# EAGLE library part FMC-HPC400 (library samtec-fmc)
ASP-134488-01 FMC Connector, lead free, (HPC), 400 I/O, male 10 mm ASP-134602-01 FMC Connector, lead free, (HPC), 400 I/O, male 8.50 mm
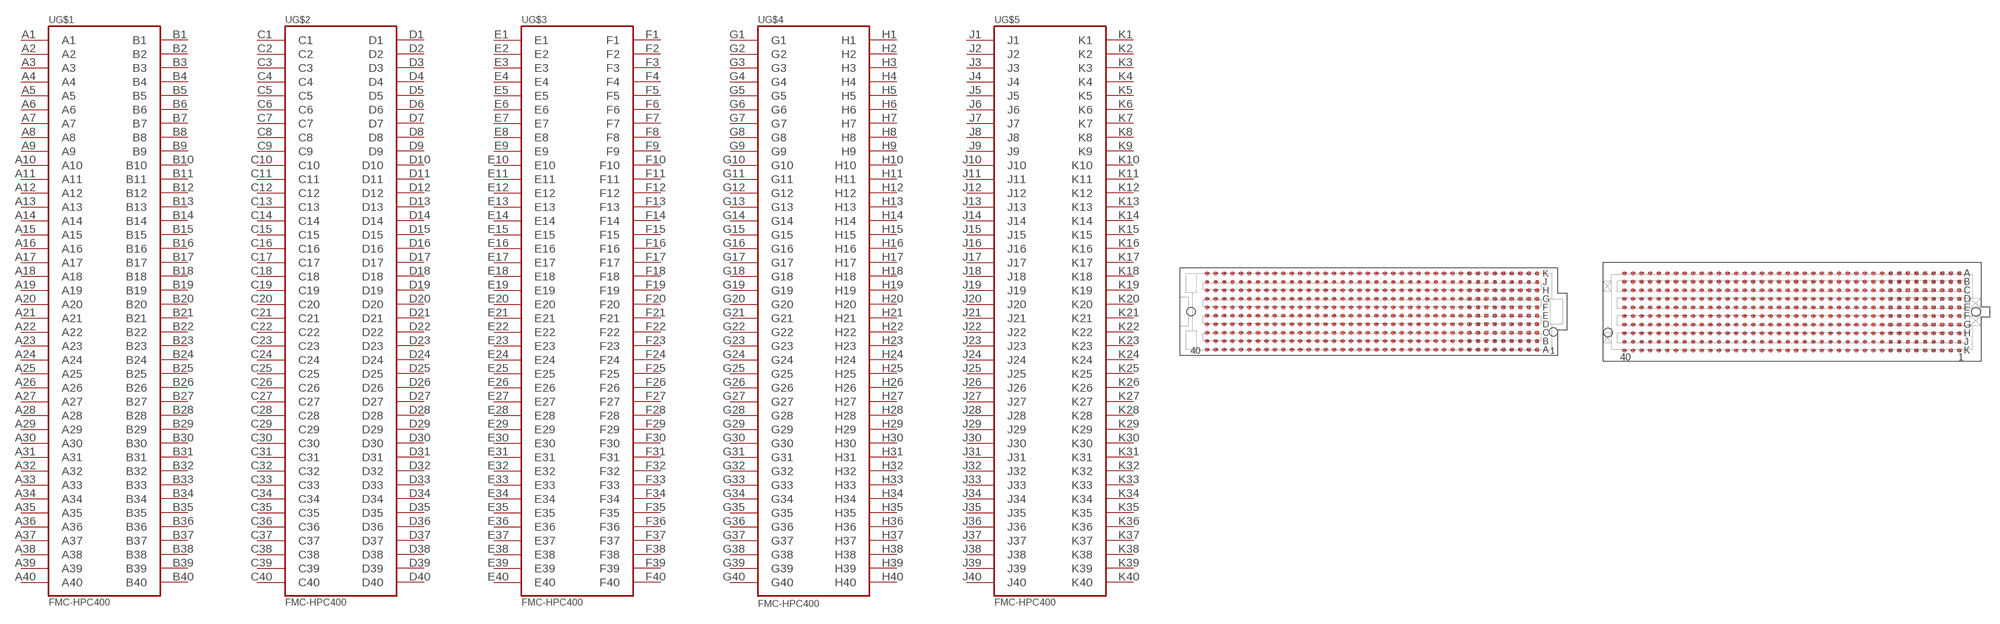
[diagram p1: symbol with the pads of ASP-134486-01; footprints ASP-134486-01, ASP-134602-01]

Designator prefix -; gates G$1=BANK-80P-AB G$2=BANK-80P-CD G$3=BANK-80P-EF G$4=BANK-80P-GH G$5=BANK-80P-JK

## FMC-HPC400-FEMALE  [ASP-134486-01]
A1  G$1:A1
A2  G$1:A2
A3  G$1:A3
A4  G$1:A4
A5  G$1:A5
A6  G$1:A6
A7  G$1:A7
A8  G$1:A8
A9  G$1:A9
A10  G$1:A10
A11  G$1:A11
A12  G$1:A12
A13  G$1:A13
A14  G$1:A14
A15  G$1:A15
A16  G$1:A16
A17  G$1:A17
A18  G$1:A18
A19  G$1:A19
A20  G$1:A20
A21  G$1:A21
A22  G$1:A22
A23  G$1:A23
A24  G$1:A24
A25  G$1:A25
A26  G$1:A26
A27  G$1:A27
A28  G$1:A28
A29  G$1:A29
A30  G$1:A30
A31  G$1:A31
A32  G$1:A32
A33  G$1:A33
A34  G$1:A34
A35  G$1:A35
A36  G$1:A36
A37  G$1:A37
A38  G$1:A38
A39  G$1:A39
A40  G$1:A40
B1  G$1:B1
B2  G$1:B2
B3  G$1:B3
B4  G$1:B4
B5  G$1:B5
B6  G$1:B6
B7  G$1:B7
B8  G$1:B8
B9  G$1:B9
B10  G$1:B10
B11  G$1:B11
B12  G$1:B12
B13  G$1:B13
B14  G$1:B14
B15  G$1:B15
B16  G$1:B16
B17  G$1:B17
B18  G$1:B18
B19  G$1:B19
B20  G$1:B20
B21  G$1:B21
B22  G$1:B22
B23  G$1:B23
B24  G$1:B24
B25  G$1:B25
B26  G$1:B26
B27  G$1:B27
B28  G$1:B28
B29  G$1:B29
B30  G$1:B30
B31  G$1:B31
B32  G$1:B32
B33  G$1:B33
B34  G$1:B34
B35  G$1:B35
B36  G$1:B36
B37  G$1:B37
B38  G$1:B38
B39  G$1:B39
B40  G$1:B40
C1  G$2:C1
C2  G$2:C2
C3  G$2:C3
C4  G$2:C4
C5  G$2:C5
C6  G$2:C6
C7  G$2:C7
C8  G$2:C8
C9  G$2:C9
C10  G$2:C10
C11  G$2:C11
C12  G$2:C12
C13  G$2:C13
C14  G$2:C14
C15  G$2:C15
C16  G$2:C16
C17  G$2:C17
C18  G$2:C18
C19  G$2:C19
C20  G$2:C20
C21  G$2:C21
C22  G$2:C22
C23  G$2:C23
C24  G$2:C24
C25  G$2:C25
C26  G$2:C26
C27  G$2:C27
C28  G$2:C28
C29  G$2:C29
C30  G$2:C30
C31  G$2:C31
C32  G$2:C32
C33  G$2:C33
C34  G$2:C34
C35  G$2:C35
C36  G$2:C36
C37  G$2:C37
C38  G$2:C38
C39  G$2:C39
C40  G$2:C40
D1  G$2:D1
D2  G$2:D2
D3  G$2:D3
D4  G$2:D4
D5  G$2:D5
D6  G$2:D6
D7  G$2:D7
D8  G$2:D8
D9  G$2:D9
D10  G$2:D10
D11  G$2:D11
D12  G$2:D12
D13  G$2:D13
D14  G$2:D14
D15  G$2:D15
D16  G$2:D16
D17  G$2:D17
D18  G$2:D18
D19  G$2:D19
D20  G$2:D20
D21  G$2:D21
D22  G$2:D22
D23  G$2:D23
D24  G$2:D24
D25  G$2:D25
D26  G$2:D26
D27  G$2:D27
D28  G$2:D28
D29  G$2:D29
D30  G$2:D30
D31  G$2:D31
D32  G$2:D32
D33  G$2:D33
D34  G$2:D34
D35  G$2:D35
D36  G$2:D36
D37  G$2:D37
D38  G$2:D38
D39  G$2:D39
D40  G$2:D40
E1  G$3:E1
E2  G$3:E2
E3  G$3:E3
E4  G$3:E4
E5  G$3:E5
E6  G$3:E6
E7  G$3:E7
E8  G$3:E8
E9  G$3:E9
E10  G$3:E10
E11  G$3:E11
E12  G$3:E12
E13  G$3:E13
E14  G$3:E14
E15  G$3:E15
E16  G$3:E16
E17  G$3:E17
E18  G$3:E18
E19  G$3:E19
E20  G$3:E20
E21  G$3:E21
E22  G$3:E22
E23  G$3:E23
E24  G$3:E24
E25  G$3:E25
E26  G$3:E26
E27  G$3:E27
E28  G$3:E28
E29  G$3:E29
E30  G$3:E30
E31  G$3:E31
E32  G$3:E32
E33  G$3:E33
E34  G$3:E34
E35  G$3:E35
E36  G$3:E36
E37  G$3:E37
E38  G$3:E38
E39  G$3:E39
E40  G$3:E40
F1  G$3:F1
F2  G$3:F2
F3  G$3:F3
F4  G$3:F4
F5  G$3:F5
F6  G$3:F6
F7  G$3:F7
F8  G$3:F8
F9  G$3:F9
F10  G$3:F10
F11  G$3:F11
F12  G$3:F12
F13  G$3:F13
F14  G$3:F14
F15  G$3:F15
F16  G$3:F16
F17  G$3:F17
F18  G$3:F18
F19  G$3:F19
F20  G$3:F20
F21  G$3:F21
F22  G$3:F22
F23  G$3:F23
F24  G$3:F24
F25  G$3:F25
F26  G$3:F26
F27  G$3:F27
F28  G$3:F28
F29  G$3:F29
F30  G$3:F30
F31  G$3:F31
F32  G$3:F32
F33  G$3:F33
F34  G$3:F34
F35  G$3:F35
F36  G$3:F36
F37  G$3:F37
F38  G$3:F38
F39  G$3:F39
F40  G$3:F40
G1  G$4:G1
G2  G$4:G2
G3  G$4:G3
G4  G$4:G4
G5  G$4:G5
G6  G$4:G6
G7  G$4:G7
G8  G$4:G8
G9  G$4:G9
G10  G$4:G10
G11  G$4:G11
G12  G$4:G12
G13  G$4:G13
G14  G$4:G14
G15  G$4:G15
G16  G$4:G16
G17  G$4:G17
G18  G$4:G18
G19  G$4:G19
G20  G$4:G20
G21  G$4:G21
G22  G$4:G22
G23  G$4:G23
G24  G$4:G24
G25  G$4:G25
G26  G$4:G26
G27  G$4:G27
G28  G$4:G28
G29  G$4:G29
G30  G$4:G30
G31  G$4:G31
G32  G$4:G32
G33  G$4:G33
G34  G$4:G34
G35  G$4:G35
G36  G$4:G36
G37  G$4:G37
G38  G$4:G38
G39  G$4:G39
G40  G$4:G40
H1  G$4:H1
H2  G$4:H2
H3  G$4:H3
H4  G$4:H4
H5  G$4:H5
H6  G$4:H6
H7  G$4:H7
H8  G$4:H8
H9  G$4:H9
H10  G$4:H10
H11  G$4:H11
H12  G$4:H12
H13  G$4:H13
H14  G$4:H14
H15  G$4:H15
H16  G$4:H16
H17  G$4:H17
H18  G$4:H18
H19  G$4:H19
H20  G$4:H20
H21  G$4:H21
H22  G$4:H22
H23  G$4:H23
H24  G$4:H24
H25  G$4:H25
H26  G$4:H26
H27  G$4:H27
H28  G$4:H28
H29  G$4:H29
H30  G$4:H30
H31  G$4:H31
H32  G$4:H32
H33  G$4:H33
H34  G$4:H34
H35  G$4:H35
H36  G$4:H36
H37  G$4:H37
H38  G$4:H38
H39  G$4:H39
H40  G$4:H40
J1  G$5:J1
J2  G$5:J2
J3  G$5:J3
J4  G$5:J4
J5  G$5:J5
J6  G$5:J6
J7  G$5:J7
J8  G$5:J8
J9  G$5:J9
J10  G$5:J10
J11  G$5:J11
J12  G$5:J12
J13  G$5:J13
J14  G$5:J14
J15  G$5:J15
J16  G$5:J16
J17  G$5:J17
J18  G$5:J18
J19  G$5:J19
J20  G$5:J20
J21  G$5:J21
J22  G$5:J22
J23  G$5:J23
J24  G$5:J24
J25  G$5:J25
J26  G$5:J26
J27  G$5:J27
J28  G$5:J28
J29  G$5:J29
J30  G$5:J30
J31  G$5:J31
J32  G$5:J32
J33  G$5:J33
J34  G$5:J34
J35  G$5:J35
J36  G$5:J36
J37  G$5:J37
J38  G$5:J38
J39  G$5:J39
J40  G$5:J40
K1  G$5:K1
K2  G$5:K2
K3  G$5:K3
K4  G$5:K4
K5  G$5:K5
K6  G$5:K6
K7  G$5:K7
K8  G$5:K8
K9  G$5:K9
K10  G$5:K10
K11  G$5:K11
K12  G$5:K12
K13  G$5:K13
K14  G$5:K14
K15  G$5:K15
K16  G$5:K16
K17  G$5:K17
K18  G$5:K18
K19  G$5:K19
K20  G$5:K20
K21  G$5:K21
K22  G$5:K22
K23  G$5:K23
K24  G$5:K24
K25  G$5:K25
K26  G$5:K26
K27  G$5:K27
K28  G$5:K28
K29  G$5:K29
K30  G$5:K30
K31  G$5:K31
K32  G$5:K32
K33  G$5:K33
K34  G$5:K34
K35  G$5:K35
K36  G$5:K36
K37  G$5:K37
K38  G$5:K38
K39  G$5:K39
K40  G$5:K40

## FMC-HPC400-MALE  [ASP-134602-01]
Pads as for ASP-134486-01

## Footprint ASP-134486-01 (pad centres in mm)
smd 0.635 x 0.635: A1 24.765,-5.715; A2 23.495,-5.715; A3 22.225,-5.715; A4 20.955,-5.715; A5 19.685,-5.715; A6 18.415,-5.715; A7 17.145,-5.715; A8 15.875,-5.715; A9 14.605,-5.715; A10 13.335,-5.715; A11 12.065,-5.715; A12 10.795,-5.715; A13 9.525,-5.715; A14 8.255,-5.715; A15 6.985,-5.715; A16 5.715,-5.715; A17 4.445,-5.715; A18 3.175,-5.715; A19 1.905,-5.715; A20 0.635,-5.715; A21 -0.635,-5.715; A22 -1.905,-5.715; A23 -3.175,-5.715; A24 -4.445,-5.715; A25 -5.715,-5.715; A26 -6.985,-5.715; A27 -8.255,-5.715; A28 -9.525,-5.715; A29 -10.795,-5.715; A30 -12.065,-5.715; A31 -13.335,-5.715; A32 -14.605,-5.715; A33 -15.875,-5.715; A34 -17.145,-5.715; A35 -18.415,-5.715; A36 -19.685,-5.715; A37 -20.955,-5.715; A38 -22.225,-5.715; A39 -23.495,-5.715; A40 -24.765,-5.715; B1 24.765,-4.445; B2 23.495,-4.445; B3 22.225,-4.445; B4 20.955,-4.445; B5 19.685,-4.445; B6 18.415,-4.445; B7 17.145,-4.445; B8 15.875,-4.445; B9 14.605,-4.445; B10 13.335,-4.445; B11 12.065,-4.445; B12 10.795,-4.445; B13 9.525,-4.445; B14 8.255,-4.445; B15 6.985,-4.445; B16 5.715,-4.445; B17 4.445,-4.445; B18 3.175,-4.445; B19 1.905,-4.445; B20 0.635,-4.445; B21 -0.635,-4.445; B22 -1.905,-4.445; B23 -3.175,-4.445; B24 -4.445,-4.445; B25 -5.715,-4.445; B26 -6.985,-4.445; B27 -8.255,-4.445; B28 -9.525,-4.445; B29 -10.795,-4.445; B30 -12.065,-4.445; B31 -13.335,-4.445; B32 -14.605,-4.445; B33 -15.875,-4.445; B34 -17.145,-4.445; B35 -18.415,-4.445; B36 -19.685,-4.445; B37 -20.955,-4.445; B38 -22.225,-4.445; B39 -23.495,-4.445; B40 -24.765,-4.445; C1 24.765,-3.175; C2 23.495,-3.175; C3 22.225,-3.175; C4 20.955,-3.175; C5 19.685,-3.175; C6 18.415,-3.175; C7 17.145,-3.175; C8 15.875,-3.175; C9 14.605,-3.175; C10 13.335,-3.175; C11 12.065,-3.175; C12 10.795,-3.175; C13 9.525,-3.175; C14 8.255,-3.175; C15 6.985,-3.175; C16 5.715,-3.175; C17 4.445,-3.175; C18 3.175,-3.175; C19 1.905,-3.175; C20 0.635,-3.175; C21 -0.635,-3.175; C22 -1.905,-3.175; C23 -3.175,-3.175; C24 -4.445,-3.175; C25 -5.715,-3.175; C26 -6.985,-3.175; C27 -8.255,-3.175; C28 -9.525,-3.175; C29 -10.795,-3.175; C30 -12.065,-3.175; C31 -13.335,-3.175; C32 -14.605,-3.175; C33 -15.875,-3.175; C34 -17.145,-3.175; C35 -18.415,-3.175; C36 -19.685,-3.175; C37 -20.955,-3.175; C38 -22.225,-3.175; C39 -23.495,-3.175; C40 -24.765,-3.175; D1 24.765,-1.905; D2 23.495,-1.905; D3 22.225,-1.905; D4 20.955,-1.905; D5 19.685,-1.905; D6 18.415,-1.905; D7 17.145,-1.905; D8 15.875,-1.905; D9 14.605,-1.905; D10 13.335,-1.905; D11 12.065,-1.905; D12 10.795,-1.905; D13 9.525,-1.905; D14 8.255,-1.905; D15 6.985,-1.905; D16 5.715,-1.905; D17 4.445,-1.905; D18 3.175,-1.905; D19 1.905,-1.905; D20 0.635,-1.905; D21 -0.635,-1.905; D22 -1.905,-1.905; D23 -3.175,-1.905; D24 -4.445,-1.905; D25 -5.715,-1.905; D26 -6.985,-1.905; D27 -8.255,-1.905; D28 -9.525,-1.905; D29 -10.795,-1.905; D30 -12.065,-1.905; D31 -13.335,-1.905; D32 -14.605,-1.905; D33 -15.875,-1.905; D34 -17.145,-1.905; D35 -18.415,-1.905; D36 -19.685,-1.905; D37 -20.955,-1.905; D38 -22.225,-1.905; D39 -23.495,-1.905; D40 -24.765,-1.905; E1 24.765,-0.635; E2 23.495,-0.635; E3 22.225,-0.635; E4 20.955,-0.635; E5 19.685,-0.635; E6 18.415,-0.635; E7 17.145,-0.635; E8 15.875,-0.635; E9 14.605,-0.635; E10 13.335,-0.635; E11 12.065,-0.635; E12 10.795,-0.635; E13 9.525,-0.635; E14 8.255,-0.635; E15 6.985,-0.635; E16 5.715,-0.635; E17 4.445,-0.635; E18 3.175,-0.635; E19 1.905,-0.635; E20 0.635,-0.635; E21 -0.635,-0.635; E22 -1.905,-0.635; E23 -3.175,-0.635; E24 -4.445,-0.635; E25 -5.715,-0.635; E26 -6.985,-0.635; E27 -8.255,-0.635; E28 -9.525,-0.635; E29 -10.795,-0.635; E30 -12.065,-0.635; E31 -13.335,-0.635; E32 -14.605,-0.635; E33 -15.875,-0.635; E34 -17.145,-0.635; E35 -18.415,-0.635; E36 -19.685,-0.635; E37 -20.955,-0.635; E38 -22.225,-0.635; E39 -23.495,-0.635; E40 -24.765,-0.635; F1 24.765,0.635; F2 23.495,0.635; F3 22.225,0.635; F4 20.955,0.635; F5 19.685,0.635; F6 18.415,0.635; F7 17.145,0.635; F8 15.875,0.635; F9 14.605,0.635; F10 13.335,0.635; F11 12.065,0.635; F12 10.795,0.635; F13 9.525,0.635; F14 8.255,0.635; F15 6.985,0.635; F16 5.715,0.635; F17 4.445,0.635; F18 3.175,0.635; F19 1.905,0.635; F20 0.635,0.635; F21 -0.635,0.635; F22 -1.905,0.635; F23 -3.175,0.635; F24 -4.445,0.635; F25 -5.715,0.635; F26 -6.985,0.635; F27 -8.255,0.635; F28 -9.525,0.635; F29 -10.795,0.635; F30 -12.065,0.635; F31 -13.335,0.635; F32 -14.605,0.635; F33 -15.875,0.635; F34 -17.145,0.635; F35 -18.415,0.635; F36 -19.685,0.635; F37 -20.955,0.635; F38 -22.225,0.635; F39 -23.495,0.635; F40 -24.765,0.635; G1 24.765,1.905; G2 23.495,1.905; G3 22.225,1.905; G4 20.955,1.905; G5 19.685,1.905; G6 18.415,1.905; G7 17.145,1.905; G8 15.875,1.905; G9 14.605,1.905; G10 13.335,1.905; G11 12.065,1.905; G12 10.795,1.905; G13 9.525,1.905; G14 8.255,1.905; G15 6.985,1.905; G16 5.715,1.905; G17 4.445,1.905; G18 3.175,1.905; G19 1.905,1.905; G20 0.635,1.905; G21 -0.635,1.905; G22 -1.905,1.905; G23 -3.175,1.905; G24 -4.445,1.905; G25 -5.715,1.905; G26 -6.985,1.905; G27 -8.255,1.905; G28 -9.525,1.905; G29 -10.795,1.905; G30 -12.065,1.905; G31 -13.335,1.905; G32 -14.605,1.905; G33 -15.875,1.905; G34 -17.145,1.905; G35 -18.415,1.905; G36 -19.685,1.905; G37 -20.955,1.905; G38 -22.225,1.905; G39 -23.495,1.905; G40 -24.765,1.905; H1 24.765,3.175; H2 23.495,3.175; H3 22.225,3.175; H4 20.955,3.175; H5 19.685,3.175; H6 18.415,3.175; H7 17.145,3.175; H8 15.875,3.175; H9 14.605,3.175; H10 13.335,3.175; H11 12.065,3.175; H12 10.795,3.175; H13 9.525,3.175; H14 8.255,3.175; H15 6.985,3.175; H16 5.715,3.175; H17 4.445,3.175; H18 3.175,3.175; H19 1.905,3.175; H20 0.635,3.175; H21 -0.635,3.175; H22 -1.905,3.175; H23 -3.175,3.175; H24 -4.445,3.175; H25 -5.715,3.175; H26 -6.985,3.175; H27 -8.255,3.175; H28 -9.525,3.175; H29 -10.795,3.175; H30 -12.065,3.175; H31 -13.335,3.175; H32 -14.605,3.175; H33 -15.875,3.175; H34 -17.145,3.175; H35 -18.415,3.175; H36 -19.685,3.175; H37 -20.955,3.175; H38 -22.225,3.175; H39 -23.495,3.175; H40 -24.765,3.175; J1 24.765,4.445; J2 23.495,4.445; J3 22.225,4.445; J4 20.955,4.445; J5 19.685,4.445; J6 18.415,4.445; J7 17.145,4.445; J8 15.875,4.445; J9 14.605,4.445; J10 13.335,4.445; J11 12.065,4.445; J12 10.795,4.445; J13 9.525,4.445; J14 8.255,4.445; J15 6.985,4.445; J16 5.715,4.445; J17 4.445,4.445; J18 3.175,4.445; J19 1.905,4.445; J20 0.635,4.445; J21 -0.635,4.445; J22 -1.905,4.445; J23 -3.175,4.445; J24 -4.445,4.445; J25 -5.715,4.445; J26 -6.985,4.445; J27 -8.255,4.445; J28 -9.525,4.445; J29 -10.795,4.445; J30 -12.065,4.445; J31 -13.335,4.445; J32 -14.605,4.445; J33 -15.875,4.445; J34 -17.145,4.445; J35 -18.415,4.445; J36 -19.685,4.445; J37 -20.955,4.445; J38 -22.225,4.445; J39 -23.495,4.445; J40 -24.765,4.445; K1 24.765,5.715; K2 23.495,5.715; K3 22.225,5.715; K4 20.955,5.715; K5 19.685,5.715; K6 18.415,5.715; K7 17.145,5.715; K8 15.875,5.715; K9 14.605,5.715; K10 13.335,5.715; K11 12.065,5.715; K12 10.795,5.715; K13 9.525,5.715; K14 8.255,5.715; K15 6.985,5.715; K16 5.715,5.715; K17 4.445,5.715; K18 3.175,5.715; K19 1.905,5.715; K20 0.635,5.715; K21 -0.635,5.715; K22 -1.905,5.715; K23 -3.175,5.715; K24 -4.445,5.715; K25 -5.715,5.715; K26 -6.985,5.715; K27 -8.255,5.715; K28 -9.525,5.715; K29 -10.795,5.715; K30 -12.065,5.715; K31 -13.335,5.715; K32 -14.605,5.715; K33 -15.875,5.715; K34 -17.145,5.715; K35 -18.415,5.715; K36 -19.685,5.715; K37 -20.955,5.715; K38 -22.225,5.715; K39 -23.495,5.715; K40 -24.765,5.715
hole 1.27 at -27.191,0
hole 1.27 at 27.191,-3.048

## Footprint ASP-134602-01 (pad centres in mm)
smd 0.635 x 0.635: A1 24.765,5.715; A2 23.495,5.715; A3 22.225,5.715; A4 20.955,5.715; A5 19.685,5.715; A6 18.415,5.715; A7 17.145,5.715; A8 15.875,5.715; A9 14.605,5.715; A10 13.335,5.715; A11 12.065,5.715; A12 10.795,5.715; A13 9.525,5.715; A14 8.255,5.715; A15 6.985,5.715; A16 5.715,5.715; A17 4.445,5.715; A18 3.175,5.715; A19 1.905,5.715; A20 0.635,5.715; A21 -0.635,5.715; A22 -1.905,5.715; A23 -3.175,5.715; A24 -4.445,5.715; A25 -5.715,5.715; A26 -6.985,5.715; A27 -8.255,5.715; A28 -9.525,5.715; A29 -10.795,5.715; A30 -12.065,5.715; A31 -13.335,5.715; A32 -14.605,5.715; A33 -15.875,5.715; A34 -17.145,5.715; A35 -18.415,5.715; A36 -19.685,5.715; A37 -20.955,5.715; A38 -22.225,5.715; A39 -23.495,5.715; A40 -24.765,5.715; B1 24.765,4.445; B2 23.495,4.445; B3 22.225,4.445; B4 20.955,4.445; B5 19.685,4.445; B6 18.415,4.445; B7 17.145,4.445; B8 15.875,4.445; B9 14.605,4.445; B10 13.335,4.445; B11 12.065,4.445; B12 10.795,4.445; B13 9.525,4.445; B14 8.255,4.445; B15 6.985,4.445; B16 5.715,4.445; B17 4.445,4.445; B18 3.175,4.445; B19 1.905,4.445; B20 0.635,4.445; B21 -0.635,4.445; B22 -1.905,4.445; B23 -3.175,4.445; B24 -4.445,4.445; B25 -5.715,4.445; B26 -6.985,4.445; B27 -8.255,4.445; B28 -9.525,4.445; B29 -10.795,4.445; B30 -12.065,4.445; B31 -13.335,4.445; B32 -14.605,4.445; B33 -15.875,4.445; B34 -17.145,4.445; B35 -18.415,4.445; B36 -19.685,4.445; B37 -20.955,4.445; B38 -22.225,4.445; B39 -23.495,4.445; B40 -24.765,4.445; C1 24.765,3.175; C2 23.495,3.175; C3 22.225,3.175; C4 20.955,3.175; C5 19.685,3.175; C6 18.415,3.175; C7 17.145,3.175; C8 15.875,3.175; C9 14.605,3.175; C10 13.335,3.175; C11 12.065,3.175; C12 10.795,3.175; C13 9.525,3.175; C14 8.255,3.175; C15 6.985,3.175; C16 5.715,3.175; C17 4.445,3.175; C18 3.175,3.175; C19 1.905,3.175; C20 0.635,3.175; C21 -0.635,3.175; C22 -1.905,3.175; C23 -3.175,3.175; C24 -4.445,3.175; C25 -5.715,3.175; C26 -6.985,3.175; C27 -8.255,3.175; C28 -9.525,3.175; C29 -10.795,3.175; C30 -12.065,3.175; C31 -13.335,3.175; C32 -14.605,3.175; C33 -15.875,3.175; C34 -17.145,3.175; C35 -18.415,3.175; C36 -19.685,3.175; C37 -20.955,3.175; C38 -22.225,3.175; C39 -23.495,3.175; C40 -24.765,3.175; D1 24.765,1.905; D2 23.495,1.905; D3 22.225,1.905; D4 20.955,1.905; D5 19.685,1.905; D6 18.415,1.905; D7 17.145,1.905; D8 15.875,1.905; D9 14.605,1.905; D10 13.335,1.905; D11 12.065,1.905; D12 10.795,1.905; D13 9.525,1.905; D14 8.255,1.905; D15 6.985,1.905; D16 5.715,1.905; D17 4.445,1.905; D18 3.175,1.905; D19 1.905,1.905; D20 0.635,1.905; D21 -0.635,1.905; D22 -1.905,1.905; D23 -3.175,1.905; D24 -4.445,1.905; D25 -5.715,1.905; D26 -6.985,1.905; D27 -8.255,1.905; D28 -9.525,1.905; D29 -10.795,1.905; D30 -12.065,1.905; D31 -13.335,1.905; D32 -14.605,1.905; D33 -15.875,1.905; D34 -17.145,1.905; D35 -18.415,1.905; D36 -19.685,1.905; D37 -20.955,1.905; D38 -22.225,1.905; D39 -23.495,1.905; D40 -24.765,1.905; E1 24.765,0.635; E2 23.495,0.635; E3 22.225,0.635; E4 20.955,0.635; E5 19.685,0.635; E6 18.415,0.635; E7 17.145,0.635; E8 15.875,0.635; E9 14.605,0.635; E10 13.335,0.635; E11 12.065,0.635; E12 10.795,0.635; E13 9.525,0.635; E14 8.255,0.635; E15 6.985,0.635; E16 5.715,0.635; E17 4.445,0.635; E18 3.175,0.635; E19 1.905,0.635; E20 0.635,0.635; E21 -0.635,0.635; E22 -1.905,0.635; E23 -3.175,0.635; E24 -4.445,0.635; E25 -5.715,0.635; E26 -6.985,0.635; E27 -8.255,0.635; E28 -9.525,0.635; E29 -10.795,0.635; E30 -12.065,0.635; E31 -13.335,0.635; E32 -14.605,0.635; E33 -15.875,0.635; E34 -17.145,0.635; E35 -18.415,0.635; E36 -19.685,0.635; E37 -20.955,0.635; E38 -22.225,0.635; E39 -23.495,0.635; E40 -24.765,0.635; F1 24.765,-0.635; F2 23.495,-0.635; F3 22.225,-0.635; F4 20.955,-0.635; F5 19.685,-0.635; F6 18.415,-0.635; F7 17.145,-0.635; F8 15.875,-0.635; F9 14.605,-0.635; F10 13.335,-0.635; F11 12.065,-0.635; F12 10.795,-0.635; F13 9.525,-0.635; F14 8.255,-0.635; F15 6.985,-0.635; F16 5.715,-0.635; F17 4.445,-0.635; F18 3.175,-0.635; F19 1.905,-0.635; F20 0.635,-0.635; F21 -0.635,-0.635; F22 -1.905,-0.635; F23 -3.175,-0.635; F24 -4.445,-0.635; F25 -5.715,-0.635; F26 -6.985,-0.635; F27 -8.255,-0.635; F28 -9.525,-0.635; F29 -10.795,-0.635; F30 -12.065,-0.635; F31 -13.335,-0.635; F32 -14.605,-0.635; F33 -15.875,-0.635; F34 -17.145,-0.635; F35 -18.415,-0.635; F36 -19.685,-0.635; F37 -20.955,-0.635; F38 -22.225,-0.635; F39 -23.495,-0.635; F40 -24.765,-0.635; G1 24.765,-1.905; G2 23.495,-1.905; G3 22.225,-1.905; G4 20.955,-1.905; G5 19.685,-1.905; G6 18.415,-1.905; G7 17.145,-1.905; G8 15.875,-1.905; G9 14.605,-1.905; G10 13.335,-1.905; G11 12.065,-1.905; G12 10.795,-1.905; G13 9.525,-1.905; G14 8.255,-1.905; G15 6.985,-1.905; G16 5.715,-1.905; G17 4.445,-1.905; G18 3.175,-1.905; G19 1.905,-1.905; G20 0.635,-1.905; G21 -0.635,-1.905; G22 -1.905,-1.905; G23 -3.175,-1.905; G24 -4.445,-1.905; G25 -5.715,-1.905; G26 -6.985,-1.905; G27 -8.255,-1.905; G28 -9.525,-1.905; G29 -10.795,-1.905; G30 -12.065,-1.905; G31 -13.335,-1.905; G32 -14.605,-1.905; G33 -15.875,-1.905; G34 -17.145,-1.905; G35 -18.415,-1.905; G36 -19.685,-1.905; G37 -20.955,-1.905; G38 -22.225,-1.905; G39 -23.495,-1.905; G40 -24.765,-1.905; H1 24.765,-3.175; H2 23.495,-3.175; H3 22.225,-3.175; H4 20.955,-3.175; H5 19.685,-3.175; H6 18.415,-3.175; H7 17.145,-3.175; H8 15.875,-3.175; H9 14.605,-3.175; H10 13.335,-3.175; H11 12.065,-3.175; H12 10.795,-3.175; H13 9.525,-3.175; H14 8.255,-3.175; H15 6.985,-3.175; H16 5.715,-3.175; H17 4.445,-3.175; H18 3.175,-3.175; H19 1.905,-3.175; H20 0.635,-3.175; H21 -0.635,-3.175; H22 -1.905,-3.175; H23 -3.175,-3.175; H24 -4.445,-3.175; H25 -5.715,-3.175; H26 -6.985,-3.175; H27 -8.255,-3.175; H28 -9.525,-3.175; H29 -10.795,-3.175; H30 -12.065,-3.175; H31 -13.335,-3.175; H32 -14.605,-3.175; H33 -15.875,-3.175; H34 -17.145,-3.175; H35 -18.415,-3.175; H36 -19.685,-3.175; H37 -20.955,-3.175; H38 -22.225,-3.175; H39 -23.495,-3.175; H40 -24.765,-3.175; J1 24.765,-4.445; J2 23.495,-4.445; J3 22.225,-4.445; J4 20.955,-4.445; J5 19.685,-4.445; J6 18.415,-4.445; J7 17.145,-4.445; J8 15.875,-4.445; J9 14.605,-4.445; J10 13.335,-4.445; J11 12.065,-4.445; J12 10.795,-4.445; J13 9.525,-4.445; J14 8.255,-4.445; J15 6.985,-4.445; J16 5.715,-4.445; J17 4.445,-4.445; J18 3.175,-4.445; J19 1.905,-4.445; J20 0.635,-4.445; J21 -0.635,-4.445; J22 -1.905,-4.445; J23 -3.175,-4.445; J24 -4.445,-4.445; J25 -5.715,-4.445; J26 -6.985,-4.445; J27 -8.255,-4.445; J28 -9.525,-4.445; J29 -10.795,-4.445; J30 -12.065,-4.445; J31 -13.335,-4.445; J32 -14.605,-4.445; J33 -15.875,-4.445; J34 -17.145,-4.445; J35 -18.415,-4.445; J36 -19.685,-4.445; J37 -20.955,-4.445; J38 -22.225,-4.445; J39 -23.495,-4.445; J40 -24.765,-4.445; K1 24.765,-5.715; K2 23.495,-5.715; K3 22.225,-5.715; K4 20.955,-5.715; K5 19.685,-5.715; K6 18.415,-5.715; K7 17.145,-5.715; K8 15.875,-5.715; K9 14.605,-5.715; K10 13.335,-5.715; K11 12.065,-5.715; K12 10.795,-5.715; K13 9.525,-5.715; K14 8.255,-5.715; K15 6.985,-5.715; K16 5.715,-5.715; K17 4.445,-5.715; K18 3.175,-5.715; K19 1.905,-5.715; K20 0.635,-5.715; K21 -0.635,-5.715; K22 -1.905,-5.715; K23 -3.175,-5.715; K24 -4.445,-5.715; K25 -5.715,-5.715; K26 -6.985,-5.715; K27 -8.255,-5.715; K28 -9.525,-5.715; K29 -10.795,-5.715; K30 -12.065,-5.715; K31 -13.335,-5.715; K32 -14.605,-5.715; K33 -15.875,-5.715; K34 -17.145,-5.715; K35 -18.415,-5.715; K36 -19.685,-5.715; K37 -20.955,-5.715; K38 -22.225,-5.715; K39 -23.495,-5.715; K40 -24.765,-5.715
hole 1.27 at 27.191,0
hole 1.27 at -27.191,-3.048